# EAGLE library part 24LC024H (library memory-microchip)
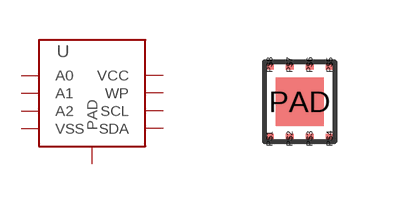
[diagram p0: symbol with the pads of TDFN8; footprint TDFN8]

Designator prefix -

## 24LC024H  [TDFN8]
P$1  A0
P$2  A1
P$3  A2
P$4  VSS
P$5  SDA
P$6  SCL
P$7  WP
P$8  VCC
PAD  PAD

## Footprint TDFN8 (pad centres in mm)
smd 0.2 x 0.25: P$1 -0.75,-0.925; P$2 -0.25,-0.925; P$3 0.25,-0.925; P$4 0.75,-0.925; P$5 0.75,0.925; P$6 0.25,0.925; P$7 -0.25,0.925; P$8 -0.75,0.925
smd 1.2 x 1.2: PAD 0,0